# EAGLE library part MPL3115A2 (library Sensor)
I2C precision pressure sensor with altimetry Datasheet <https://www.nxp.com/docs/en/data-sheet/MPL3115A2.pdf>
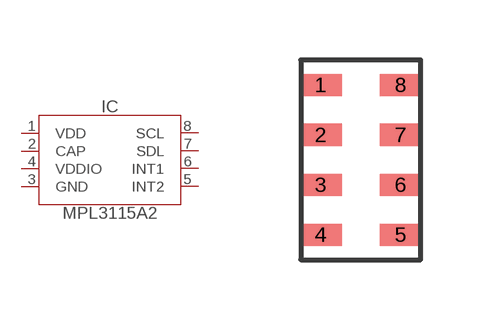
[diagram p6: symbol with the pads of MPL3115A2_LGA8; footprint MPL3115A2_LGA8]

Designator prefix IC

## MPL3115A2 (CATEGORY: SENSOR; DESCRIPTION: I 2C precision pressure sensor with altimetry; MANUFACTURER: NXP; MPN: MPL3115A2; OPERATIN_TEMP: –40 °C to 85 °C; PART_STATUS: ACTIVE; ROHS_COMPLIANT: RoHS COMPLIANT; SUB-CATEGORY: Pressure; VALUE: MPL3115A2), MPL3115A2R1 (CATEGORY: SENSOR; DESCRIPTION: I 2C precision pressure sensor with altimetry; MANUFACTURER: NXP; MPN: MPL3115A2; OPERATIN_TEMP: –40 °C to 85 °C; PART_STATUS: ACTIVE; ROHS_COMPLIANT: RoHS COMPLIANT; SUB-CATEGORY: Pressure; VALUE: MPL3115A2)  [MPL3115A2_LGA8]
1  VDD
2  CAP
3  GND
4  VDDIO
5  INT2
6  INT1
7  SDL
8  SCL

## Footprint MPL3115A2_LGA8 (pad centres in mm)
smd 1.05 x 0.55: 1 -1,1.88; 2 -1,0.63; 3 -1,-0.62; 4 -1,-1.87; 5 1,-1.87; 6 1,-0.62; 7 1,0.63; 8 1,1.88